# Altium footprint library THT generic footprints.PcbLib: 13 footprints
Each footprint in its own frame and in the unit in brackets; x right, y up, seen from the top. Pads: shape width x height; smd on the part's side, far side on the other; paste and mask are expansions set on the pad; w line width, h text height; cw(c..) or ccw(c..) is an arc to the next point about the centre after c.
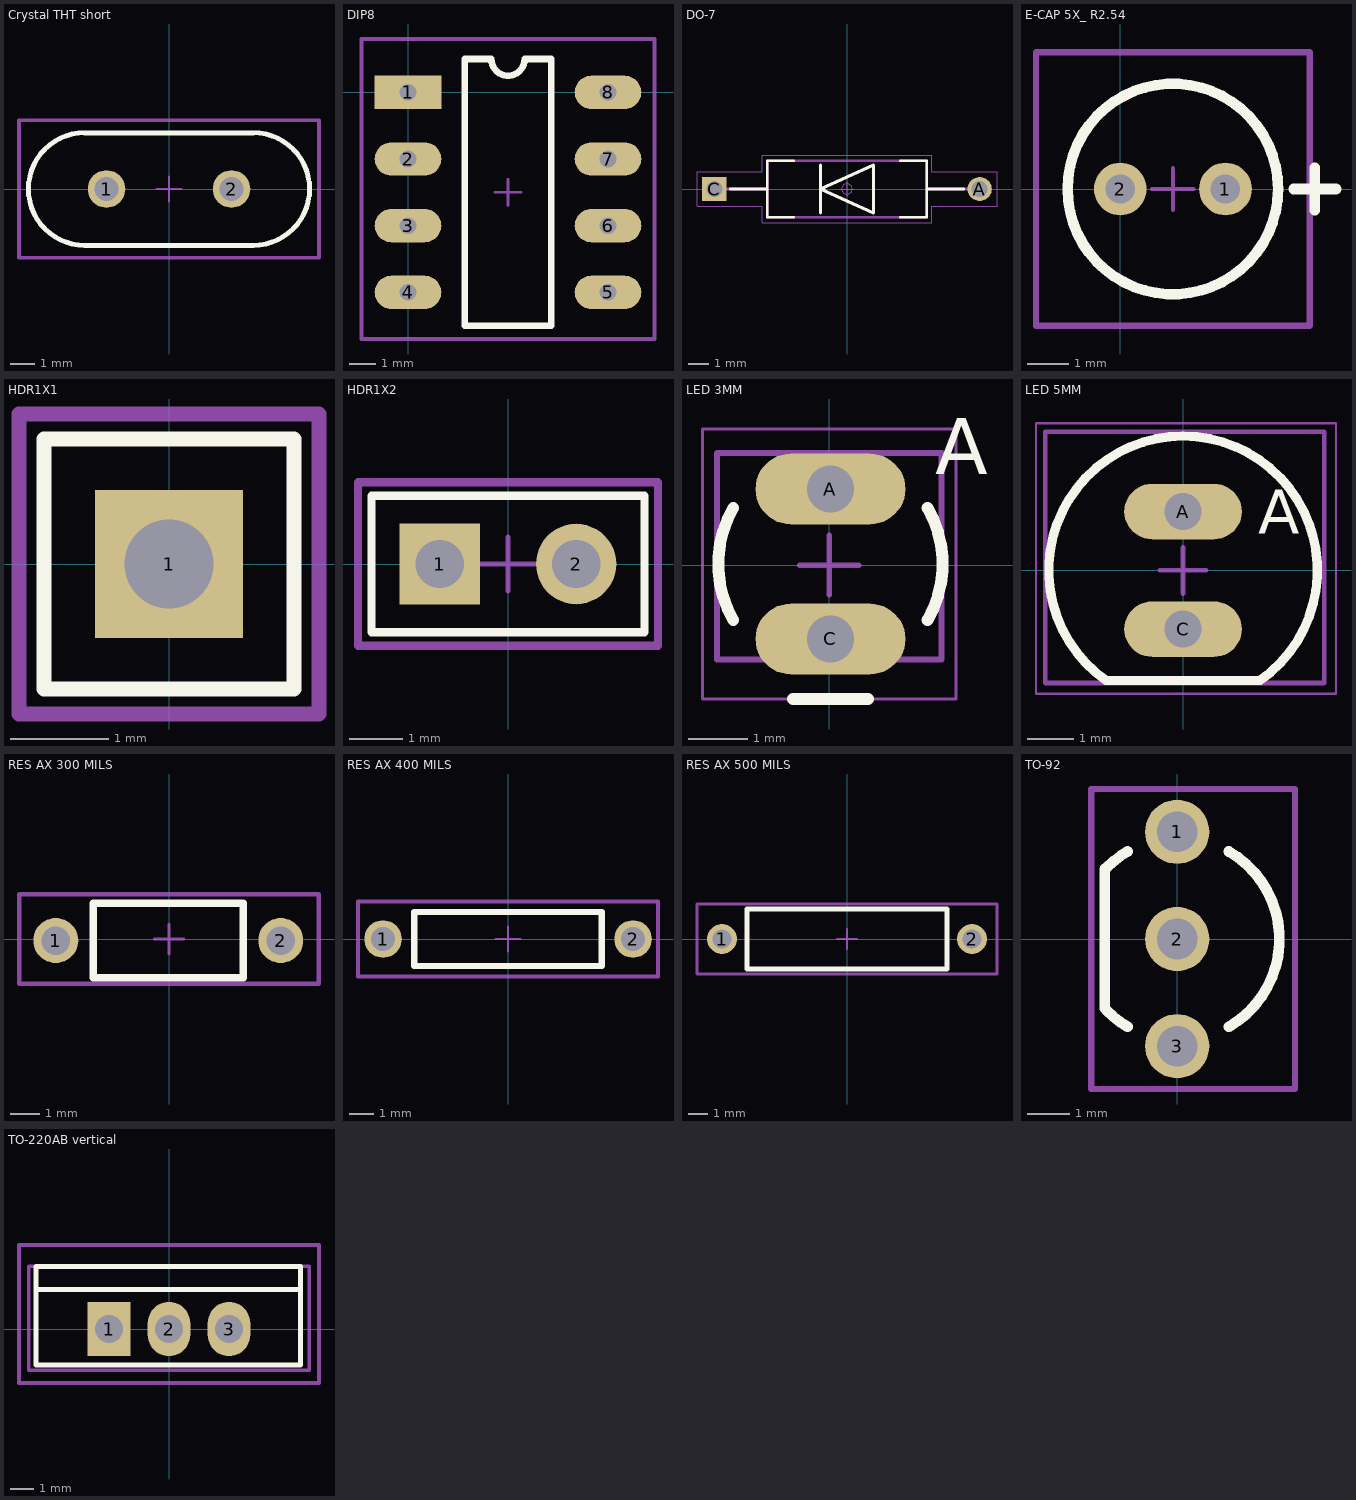
[diagram p0: the footprints below, top view; thin cyan lines are the x and y axes]

## Crystal THT short [mil] "Crystal short THT"
height 157.48
pads (2):
  round 60 hole 38: 1(-100,0) 2(100,0)
Top Overlay:
  lines w8: -135,-90 cw(c-135,0) -135,90 135,90 cw(c135,0) 135,-90 -135,-90
Mechanical 15:
  lines w3.94: -19.68,0 19.69,0 ; 0,-19.68 0,19.69
  lines w6: -240,-110 -240,110 240,110 240,-110 -240,-110
3D body "User Library-HP49US.step": height 138.4, standoff -156.88, extent -223.43,-90 223.43,93.07

## DIP8 [mil]
pads (8):
  rect 100x50 hole 25: 1(0,0)
  oval 100x50 hole 25: 2(0,-100) 3(0,-200) 4(0,-300) 5(300,-300) 6(300,-200) 7(300,-100) 8(300,0)
Top Overlay:
  lines w10: 85,-350 215,-350 215,50 175,50 cw(c150,50) 125,50 85,50 85,-350
Mechanical 15:
  lines w3.94: 130.31,-150 169.69,-150 ; 150,-169.69 150,-130.31
  lines w6: -70,-370 370,-370 370,80 -70,80 -70,-370
3D body "SW3DPS-DIP 8 IC-DEFAULT.step": height 200, standoff -137.8, extent -4.92,-359 304.92,70.92

## DO-7 [mm] "Diode, Axial; 12.70 mm C X 0.508 mm W 7.62 mm L X 2.71 mm Dia body"
height 2.71
pads (2):
  round 1.16 hole 0.76 paste-1.16: A(6.35,0)
  rect 1.16x1.16 hole 0.76 paste-1.16: C(-6.35,0)
Top Overlay:
  lines w0.12: -5.59,0 -3.81,0 ; -2.54,-1.36 -3.81,-1.36 -3.81,1.36 -2.54,1.36 ; 2.54,-1.36 3.81,-1.36 3.81,1.36 2.54,1.36 ; 3.81,0 5.59,0
  lines w0.15: -1.27,-1.143 -1.27,1.143 ; -1.27,0 1.27,1.143 1.27,-1.143 -1.27,0
Mechanical 13:
  lines w0.025: -3.81,-1.355 -3.81,1.355 3.81,1.355 3.81,-1.355 -3.81,-1.355
Mechanical 15:
  circle w0.05: c0,0 r0.25
  lines w0.05: -0.35,0 0.35,0 ; 0,-0.35 0,0.35 ; -7.18,-0.83 -7.18,0.83 -4.06,0.83 -4.06,1.61 4.06,1.61 4.06,0.83 7.18,0.83 7.18,-0.83 4.06,-0.83 4.06,-1.61 -4.06,-1.61 -4.06,-0.83 -7.18,-0.83
Mechanical 19:
  circle w0.025: c-6.35,0 r0.279
  circle w0.025: c6.35,0 r0.279
Mechanical 21:
  lines w0.12: -5.77,0 -3.81,0 ; 3.81,0 5.77,0 ; -3.81,-1.36 -3.81,1.36 3.81,1.36 3.81,-1.36 -3.81,-1.36
3D body "DO-7.STEP": height 2.72, standoff -2, extent -6.604,-1.362 6.604,1.362

## E-CAP 5X_ R2.54 [mil]
height 393.7
pads (2):
  round 50 hole 28: 1(100,0) 2(0,0)
Top Overlay:
  circle w10: c50,0 r100
  lines w10: 165,0 205,0 ; 185,-20 185,20
Mechanical 15:
  lines w3.94: 30.32,0 69.69,0 ; 50,-19.68 50,19.69
  lines w6: -80,-130 180,-130 180,130 -80,130 -80,-130
3D body "User Library-Cap electro 6_3x7x2_5mm.step": height 110.8, standoff -304.15, extent -75.01,-125 175.02,125.02

## HDR1X1 [mm] "Connector; Header; 1 Position"
pads (1):
  rect 1.5x1.5 hole 0.9: 1(0,0)
Top Overlay:
  lines w0.152: -1.27,-1.27 -1.27,1.27 1.27,1.27 1.27,-1.27 -1.27,-1.27
Mechanical 15:
  lines w0.1: -0.5,0 0.5,0 ; 0,-0.5 0,0.5
  lines w0.152: -1.524,-1.524 1.524,-1.524 1.524,1.524 -1.524,1.524 -1.524,-1.524
3D body "Samtec-TSW-101-07-G-S.step": height 8.4, standoff -2.52, extent -1.27,-1.27 1.27,1.27

## HDR1X2 [mm] "Connector; Header; 2 Position"
pads (2):
  rect 1.5x1.5 hole 0.9: 1(-1.27,0)
  round 1.5 hole 0.9: 2(1.27,0)
Top Overlay:
  lines w0.152: -2.54,-1.27 -2.54,1.27 2.54,1.27 2.54,-1.27 -2.54,-1.27
Mechanical 15:
  lines w0.1: -0.5,0 0.5,0 ; 0,-0.5 0,0.5
  lines w0.152: -2.794,-1.524 2.794,-1.524 2.794,1.524 -2.794,1.524 -2.794,-1.524
3D body "Samtec-TSW-101-07-G-S.step": height 8.4, standoff -2.52, extent 0,-1.27 2.54,1.27
3D body "Samtec-TSW-101-07-G-S.step": height 8.4, standoff -2.52, extent -2.54,-1.27 0,1.27

## LED 3MM [mm] "Led THT Round 3mm"
pads (2):
  oval 2.54x1.2 hole 0.8: A(0.02,1.29) C(0.02,-1.25)
Top Overlay:
  lines w0.2: -1.625,-0.93 cw(c0.02,0.02) -1.625,0.97 ; -0.615,-2.266 0.655,-2.266 ; 1.666,-0.93 ccw(c0.02,0.02) 1.666,0.97
  text "A" at 1.798,1.544 h0.95
Mechanical 13:
  lines w0.1: -1.9,-1.6 1.9,-1.6 1.9,1.9 -1.9,1.9 -1.9,-1.6
Mechanical 15:
  lines w0.05: -2.15,-2.266 2.15,-2.266 2.15,2.306 -2.15,2.306 -2.15,-2.266
  lines w0.1: -0.5,0 0.5,0 ; 0,-0.5 0,0.5
3D body "SW3DPS-LED DIP 3MM-DEFAULT.step": height 5.52, standoff -2.98, extent -1.9,-1.6 1.9,1.9

## LED 5MM [mm] "Led THT Round 5mm"
pads (2):
  oval 2.54x1.2 hole 0.8: A(0,1.27) C(0,-1.27)
Top Overlay:
  lines w0.2: -1.663,-2.376 cw(c0,0) 1.663,-2.376 -1.663,-2.376
  text "A" at 1.626,0.787 h0.95
Mechanical 13:
  lines w0.1: -2.972,-2.431 3.048,-2.431 3.048,2.989 -2.972,2.989 -2.972,-2.431
Mechanical 15:
  lines w0.05: -3.175,-2.667 3.302,-2.667 3.302,3.175 -3.175,3.175 -3.175,-2.667
  lines w0.1: -0.5,0 0.5,0 ; 0,-0.5 0,0.5
3D body "SW3dPS-LEDd5C.STEP": height 8.62, standoff -6.18, extent -2.972,-2.431 3.048,2.989

## RES AX 300 MILS [mil]
pads (2):
  round 60 hole 38: 1(-151,-2) 2(149,-2)
Top Overlay:
  lines w10: -101,-52 -101,48 99,48 99,-52 -101,-52
Mechanical 15:
  lines w3.94: -19.68,0 19.69,0 ; 0,-19.68 0,19.69
  lines w6: -200,-60 -200,60 200,60 200,-60 -200,-60
3D body "User Library-Resistencia-1.step": height 19.68, standoff -118.55, extent -160.99,-40.23 159.01,36.25

## RES AX 400 MILS [mil]
pads (2):
  round 60 hole 38: 1(-200,0) 2(200,0)
Top Overlay:
  lines w10: -150,-43.31 -150,43.31 150,43.31 150,-43.31 -150,-43.31
Mechanical 15:
  lines w3.94: -19.68,0 19.69,0 ; 0,-19.68 0,19.69
  lines w6: -240,-60 -240,60 240,60 240,-60 -240,-60
3D body "User Library-RESISTOR, 0_25 W, 0_4 IN LEAD PITCH.step": height 91, standoff -124.5, extent -212,-45 212,46

## RES AX 500 MILS [mil]
pads (2):
  round 60 hole 38: 1(-250,0) 2(250,0)
Top Overlay:
  lines w10: -200,-60 -200,60 200,60 200,-60 -200,-60
Mechanical 15:
  lines w3.94: -19.68,0 19.69,0 ; 0,-19.68 0,19.69
  lines w6: -300,-70 300,-70 300,70 -300,70 -300,-70
3D body "User Library-res_05x12_5.STEP": height 125.98, standoff -86.61, extent -258,-62.99 257.75,62.99

## TO-92 [mil]
pads (3):
  round 60 hole 38: 1(0,100) 2(0,0) 3(0,-100)
Top Overlay:
  lines w10: -67.52,-64.67 -67.52,65.26 ; -65.83,-66.91 ccw(c0.98,-0.1) -46.26,-81.93 ; -65.83,66.71 cw(c0.98,-0.1) -46.26,81.73 ; 48.23,-81.93 ccw(c0.98,-0.1) 48.23,81.73
Mechanical 15:
  lines w3.94: -19.68,0 19.69,0 ; 0,-19.68 0,19.69
  lines w6: -80,-140 110,-140 110,140 -80,140 -80,-140
3D body "User Library-TO-92-1.step": height 216.54, standoff -86.61, extent -62.99,-109.84 93.36,109.84

## TO-220AB vertical [mm]
height 20
pads (3):
  rect 1.8x2.3 hole 1.2: 1(-2.54,0)
  oval 1.8x2.3 hole 1.2: 2(0,0) 3(2.54,0)
Top Overlay:
  lines w0.203: -5.632,2.641 -5.632,-1.524 5.563,-1.524 5.563,2.641 -5.621,2.641 ; -5.623,1.674 5.553,1.674
Mechanical 13:
  lines w0.152: -5.942,-1.75 5.942,-1.75 5.942,2.65 -5.942,2.65 -5.942,-1.75
Mechanical 15:
  lines w0.152: -0.635,0 0.635,0 ; 0,-0.635 0,0.635 ; -6.35,-2.286 -6.35,3.556 6.35,3.556 6.35,-2.286 -6.35,-2.286
3D body "TO-220 3pins short V1.stp": height 19.11, standoff -3, extent -5.942,-1.75 5.942,2.65